# EAGLE library part MCP1725 (library 1dah)
LDO power supply 500mA
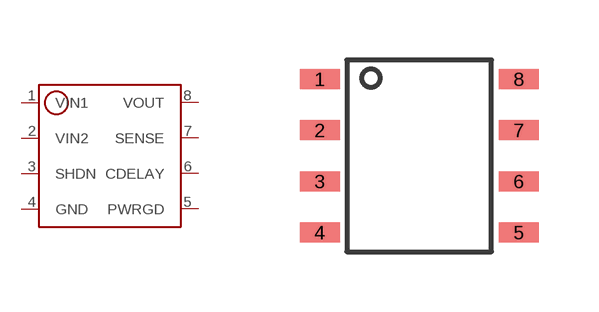
[diagram p19: symbol with the pads of SOIC8; footprint SOIC8]

Designator prefix -

## MCP1725  [SOIC8]
1  VIN1
2  VIN2
3  SHDN
4  GND
5  PWRGD
6  CDELAY
7  SENSE
8  VOUT

## Footprint SOIC8 (pad centres in mm)
smd 1 x 0.5: 1 -2.5,1.92; 2 -2.5,0.64; 3 -2.5,-0.64; 4 -2.5,-1.92; 5 2.48,-1.92; 6 2.48,-0.64; 7 2.48,0.64; 8 2.48,1.92